# EAGLE library part STM32F1C_BASE (library my-library)
STM32F100C8 Base Board
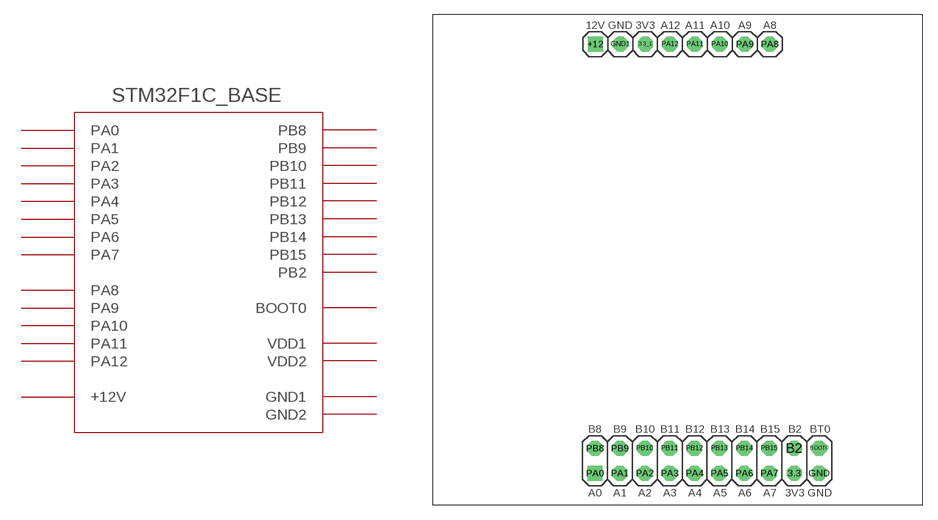
[diagram p10: symbol with the pads of STM32F1_BASE; footprint STM32F1_BASE]

Designator prefix -

## STM32F1C_BASE  [STM32F1_BASE]
3.3  VDD1  sup
3.3_1  VDD2  sup
+12  +12V  pwr
B2  PB2  pas
BOOT0  BOOT0  pas
GND  GND1  sup
GND1  GND2  sup
PA0  PA0  pas
PA1  PA1  pas
PA2  PA2  pas
PA3  PA3  pas
PA4  PA4  pas
PA5  PA5  pas
PA6  PA6  pas
PA7  PA7  pas
PA8  PA8  pas
PA9  PA9  pas
PA10  PA10  pas
PA11  PA11  pas
PA12  PA12  pas
PB8  PB8  pas
PB9  PB9  pas
PB10  PB10  pas
PB11  PB11  pas
PB12  PB12  pas
PB13  PB13  pas
PB14  PB14  pas
PB15  PB15  pas

## Footprint STM32F1_BASE (pad centres in mm)
drill 1.016 octagon: 3.3 36.89,3.23; 3.3_1 21.69,47; B2 36.89,5.77; BOOT0 39.43,5.77; GND 39.43,3.23; GND1 19.15,47; PA1 19.11,3.23; PA2 21.65,3.23; PA3 24.19,3.23; PA4 26.73,3.23; PA5 29.27,3.23; PA6 31.81,3.23; PA7 34.35,3.23; PA8 34.39,47; PA9 31.85,47; PA10 29.31,47; PA11 26.77,47; PA12 24.23,47; PB8 16.57,5.77; PB9 19.11,5.77; PB10 21.65,5.77; PB11 24.19,5.77; PB12 26.73,5.77; PB13 29.27,5.77; PB14 31.81,5.77; PB15 34.35,5.77
drill 1.016 square: +12 16.61,47; PA0 16.57,3.23